# EAGLE library part MAX30102EFD+T (library MAX30102EFD+T)
Biometric Sensors Integrated Optical Sensor Source: Datasheet <https://datasheets.maximintegrated.com/en/ds/MAX30102.pdf>
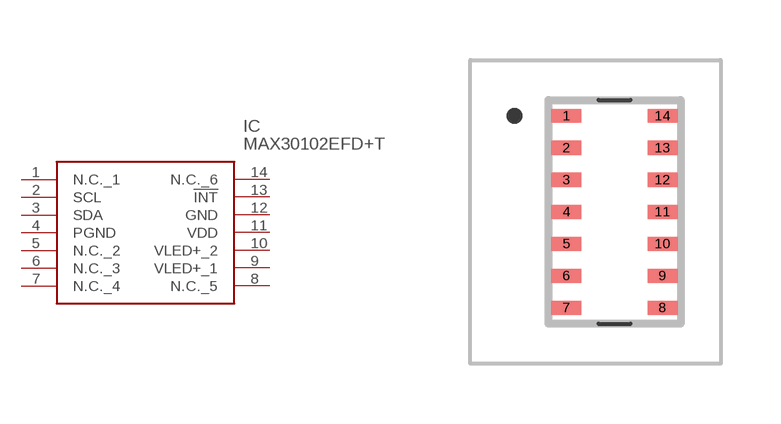
[diagram p0: symbol with the pads of MAX30102EFDT; footprint MAX30102EFDT]

Designator prefix IC

## MAX30102EFD+T (Arrow_Part_Number: MAX30102EFD+T; Arrow_Price-Stock: https://www.arrow.com/en/products/max30102efdt/maxim-integrated?region=nac; Description: Biometric Sensors Integrated Optical Sensor; Height: 1.65mm; Manufacturer_Name: Maxim Integrated; Manufacturer_Part_Number: MAX30102EFD+T; Mouser_Part_Number: 700-MAX30102EFD+T; Mouser_Price-Stock: https://www.mouser.co.uk/ProductDetail/Maxim-Integrated/MAX30102EFD%2bT?qs=nVS1qgv%252BQrkHA4%2FoFYriFA%3D%3D)  [MAX30102EFDT]
1  N.C._1
2  SCL
3  SDA
4  PGND
5  N.C._2
6  N.C._3
7  N.C._4
8  N.C._5
9  VLED+_1
10  VLED+_2
11  VDD
12  GND
13  !INT
14  N.C._6

## Footprint MAX30102EFDT (pad centres in mm)
MAX30102EFD+T-3
smd 0.75 x 0.35: 1 -1.2,2.4; 2 -1.2,1.6; 3 -1.2,0.8; 4 -1.2,0; 5 -1.2,-0.8; 6 -1.2,-1.6; 7 -1.2,-2.4; 8 1.2,-2.4; 9 1.2,-1.6; 10 1.2,-0.8; 11 1.2,0; 12 1.2,0.8; 13 1.2,1.6; 14 1.2,2.4